# EAGLE library part CON-54722-0607-2 (library diode-20CJQ030)
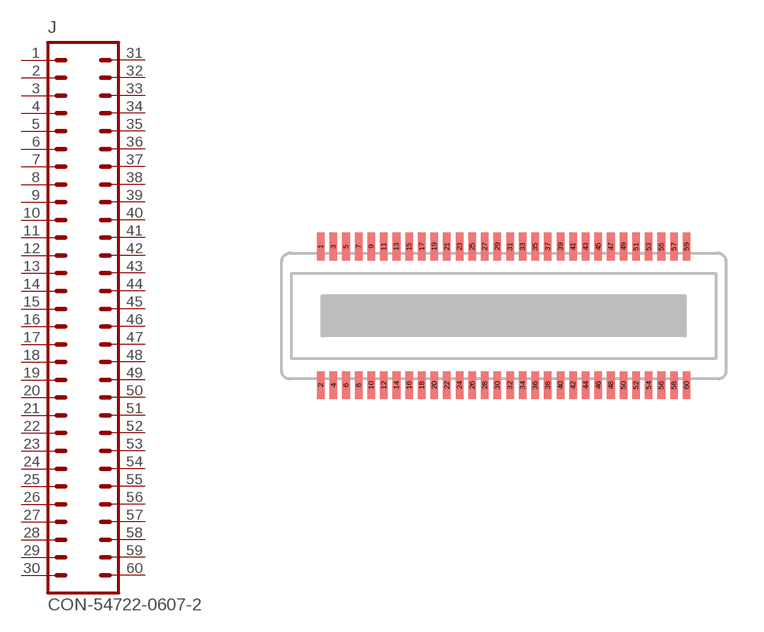
[diagram p163: symbol with the pads of 54722-0607; footprint 54722-0607]

Designator prefix J

## CON-54722-0607-2  [54722-0607]
1  1  pas
2  2  pas
3  3  pas
4  4  pas
5  5  pas
6  6  pas
7  7  pas
8  8  pas
9  9  pas
10  10  pas
11  11  pas
12  12  pas
13  13  pas
14  14  pas
15  15  pas
16  16  pas
17  17  pas
18  18  pas
19  19  pas
20  20  pas
21  21  pas
22  22  pas
23  23  pas
24  24  pas
25  25  pas
26  26  pas
27  27  pas
28  28  pas
29  29  pas
30  30  pas
31  31  pas
32  32  pas
33  33  pas
34  34  pas
35  35  pas
36  36  pas
37  37  pas
38  38  pas
39  39  pas
40  40  pas
41  41  pas
42  42  pas
43  43  pas
44  44  pas
45  45  pas
46  46  pas
47  47  pas
48  48  pas
49  49  pas
50  50  pas
51  51  pas
52  52  pas
53  53  pas
54  54  pas
55  55  pas
56  56  pas
57  57  pas
58  58  pas
59  59  pas
60  60  pas

## Footprint 54722-0607 (pad centres in mm)
Molex 54722-0607 Bord to Board connector 60pin.
smd 0.3 x 1.1: 1 -7.25,2.75; 2 -7.25,-2.75; 3 -6.75,2.75; 4 -6.75,-2.75; 5 -6.25,2.75; 6 -6.25,-2.75; 7 -5.75,2.75; 8 -5.75,-2.75; 9 -5.25,2.75; 10 -5.25,-2.75; 11 -4.75,2.75; 12 -4.75,-2.75; 13 -4.25,2.75; 14 -4.25,-2.75; 15 -3.75,2.75; 16 -3.75,-2.75; 17 -3.25,2.75; 18 -3.25,-2.75; 19 -2.75,2.75; 20 -2.75,-2.75; 21 -2.25,2.75; 22 -2.25,-2.75; 23 -1.75,2.75; 24 -1.75,-2.75; 25 -1.25,2.75; 26 -1.25,-2.75; 27 -0.75,2.75; 28 -0.75,-2.75; 29 -0.25,2.75; 30 -0.25,-2.75; 31 0.25,2.75; 32 0.25,-2.75; 33 0.75,2.75; 34 0.75,-2.75; 35 1.25,2.75; 36 1.25,-2.75; 37 1.75,2.75; 38 1.75,-2.75; 39 2.25,2.75; 40 2.25,-2.75; 41 2.75,2.75; 42 2.75,-2.75; 43 3.25,2.75; 44 3.25,-2.75; 45 3.75,2.75; 46 3.75,-2.75; 47 4.25,2.75; 48 4.25,-2.75; 49 4.75,2.75; 50 4.75,-2.75; 51 5.25,2.75; 52 5.25,-2.75; 53 5.75,2.75; 54 5.75,-2.75; 55 6.25,2.75; 56 6.25,-2.75; 57 6.75,2.75; 58 6.75,-2.75; 59 7.25,2.75; 60 7.25,-2.75